# Altium schematic symbol library SCH - DRIVER - LED - TI TLC59116F_RHB_32.SchLib: 1 symbol
Pins are listed as number, name and electrical type; pins without a type are passive.

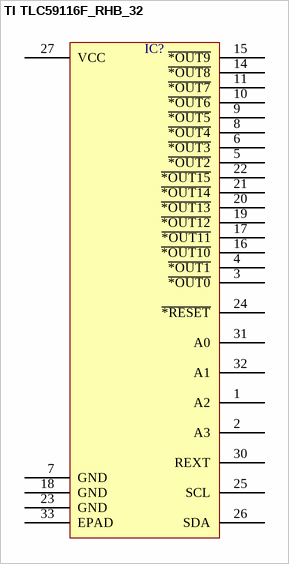
[diagram p0: symbol TI TLC59116F_RHB_32]

## TI TLC59116F_RHB_32
designator IC?  (value not drawn)
pins: 1 A2, 2 A3, 3 ~{*OUT0}, 4 ~{*OUT1}, 5 ~{*OUT2}, 6 ~{*OUT3}, 7 GND, 8 ~{*OUT4}, 9 ~{*OUT5}, 10 ~{*OUT6}, 11 ~{*OUT7}, 14 ~{*OUT8}, 15 ~{*OUT9}, 16 ~{*OUT10}, 17 ~{*OUT11}, 18 GND, 19 ~{*OUT12}, 20 ~{*OUT13}, 21 ~{*OUT14}, 22 ~{*OUT15}, 23 GND, 24 ~{*RESET}, 25 SCL, 26 SDA, 27 VCC, 30 REXT, 31 A0, 32 A1, 33 EPAD